# Altium footprint library OpenVizsla footprints.PcbLib: 47 footprints (part 3 of 3)
Each footprint in its own frame and in the unit in brackets; x right, y up, seen from the top. Pads: shape width x height; smd on the part's side, far side on the other; paste and mask are expansions set on the pad; w line width, h text height; cw(c..) or ccw(c..) is an arc to the next point about the centre after c.
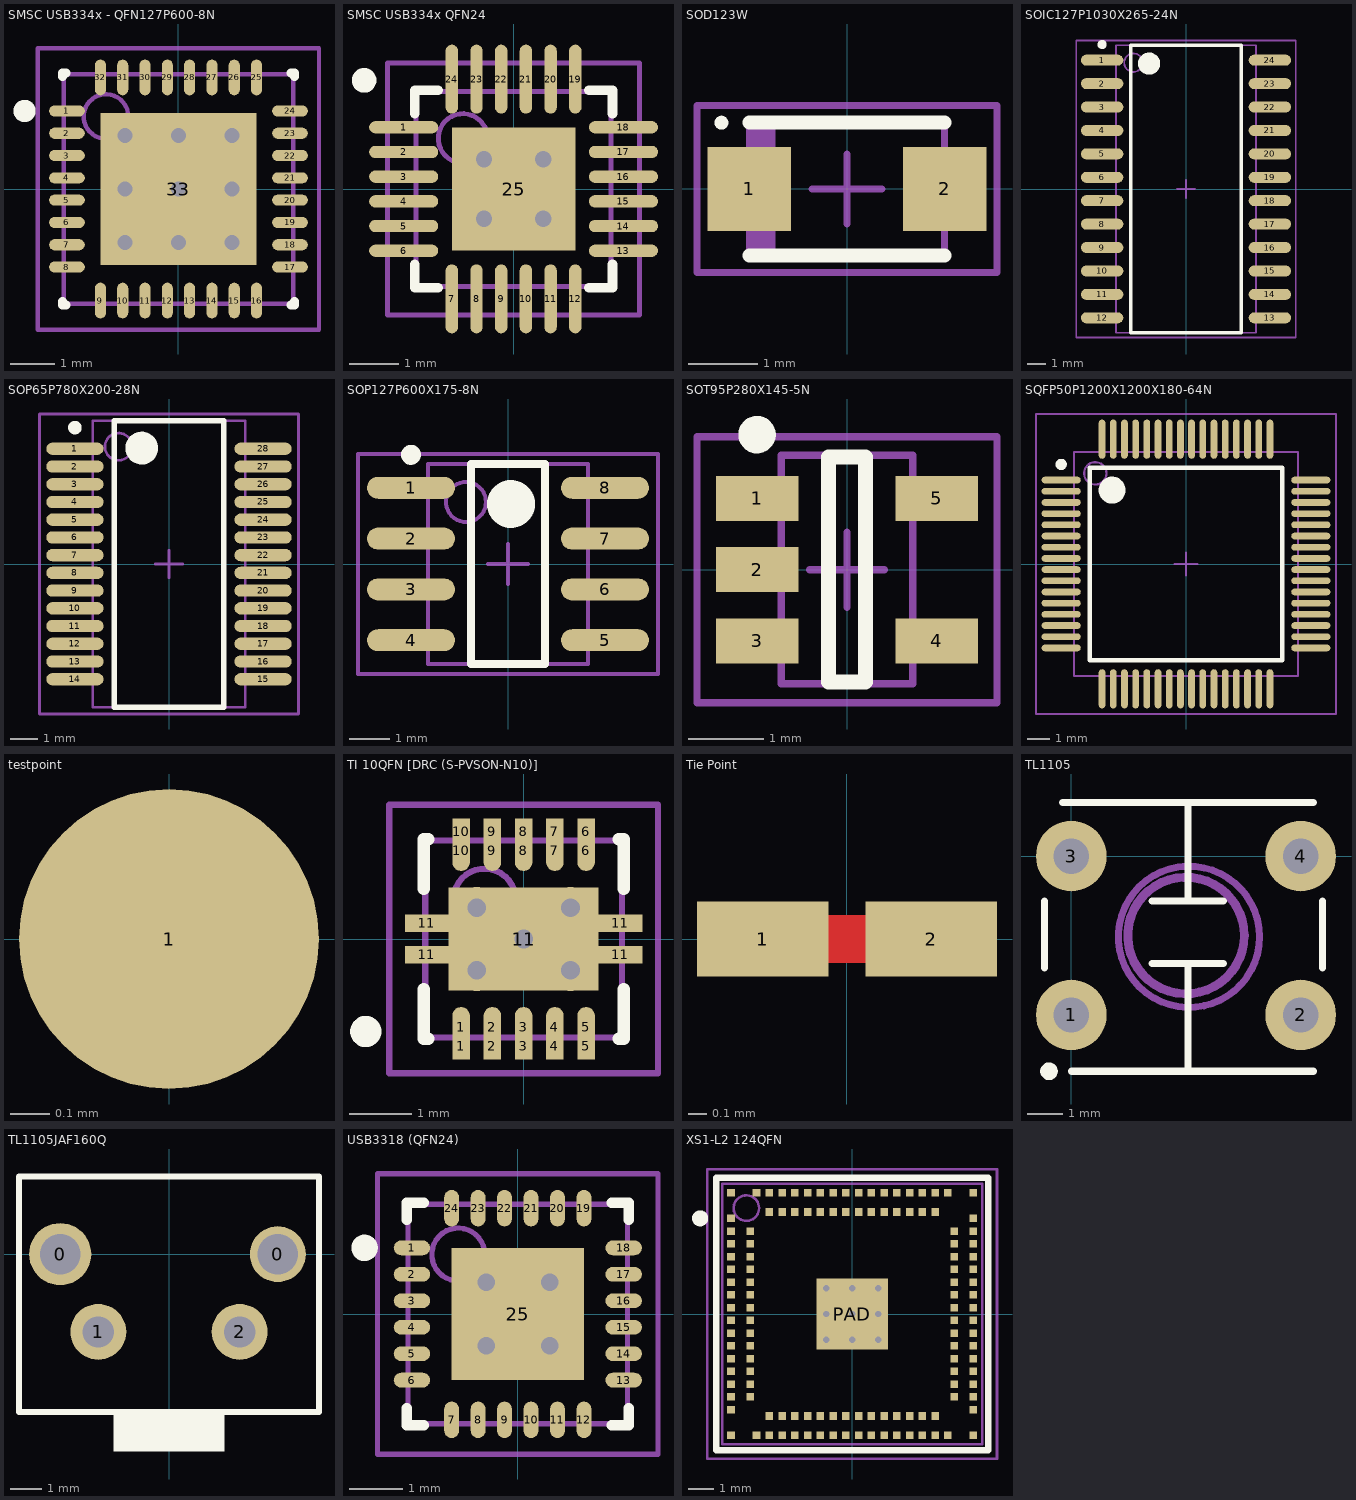
[diagram p2: the footprints below, top view; thin cyan lines are the x and y axes]

## SMSC USB334x - QFN127P600-8N [mm]
height 1
pads (33):
  oval 0.8x0.25 smd: 1(-2.5,1.75) 2(-2.5,1.25) 3(-2.5,0.75) 4(-2.5,0.25) 5(-2.5,-0.25) 6(-2.5,-0.75) 7(-2.5,-1.25) 8(-2.5,-1.75) 17(2.5,-1.75) 18(2.5,-1.25) 19(2.5,-0.75) 20(2.5,-0.25) 21(2.5,0.25) 22(2.5,0.75) 23(2.5,1.25) 24(2.5,1.75)
  oval 0.25x0.8 smd: 9(-1.75,-2.5) 10(-1.25,-2.5) 11(-0.75,-2.5) 12(-0.25,-2.5) 13(0.25,-2.5) 14(0.75,-2.5) 15(1.25,-2.5) 16(1.75,-2.5) 25(1.75,2.5) 26(1.25,2.5) 27(0.75,2.5) 28(0.25,2.5) 29(-0.25,2.5) 30(-0.75,2.5) 31(-1.25,2.5) 32(-1.75,2.5)
  rect 3.5x3.4 smd: 33(0,0)
via -1.2,1.2 diameter 0.66 hole 0.33
via 0,1.2 diameter 0.66 hole 0.33
via 1.2,1.2 diameter 0.66 hole 0.33
via -1.2,0 diameter 0.66 hole 0.33
via 0,0 diameter 0.66 hole 0.33
via 1.2,0 diameter 0.66 hole 0.33
via -1.2,-1.2 diameter 0.66 hole 0.33
via 0,-1.2 diameter 0.66 hole 0.33
via 1.2,-1.2 diameter 0.66 hole 0.33
Top Overlay:
  circle w0.25: c-3.45,1.75 r0.125
  lines w0.2: -2.6,-2.525 -2.6,-2.6 -2.525,-2.6 ; -2.6,2.525 -2.6,2.6 -2.525,2.6 ; 2.525,-2.6 2.6,-2.6 2.6,-2.525 ; 2.525,2.6 2.6,2.6 2.6,2.525
Mechanical 13:
  circle w0.1: c-1.625,1.625 r0.5
  lines w0.1: -2.575,-2.575 -2.575,2.575 2.575,2.575 2.575,-2.575 -2.575,-2.575
Mechanical 15:
  lines w0.1: -0.5,0 0.5,0 ; 0,-0.5 0,0.5 ; -3.15,-3.15 -3.15,3.15 3.15,3.15 3.15,-3.15 -3.15,-3.15
3D body: height 1, standoff 0, extent -2.575,-2.575 2.575,2.575

## SMSC USB334x QFN24 [mm] "SMSC USB334x QFN24"
height 1
pads (25):
  oval 1.4x0.25 smd mask+0.07: 1(-2.225,1.25) 2(-2.225,0.75) 3(-2.225,0.25) 4(-2.225,-0.25) 5(-2.225,-0.75) 6(-2.225,-1.25) 13(2.225,-1.25) 14(2.225,-0.75) 15(2.225,-0.25) 16(2.225,0.25) 17(2.225,0.75) 18(2.225,1.25)
  oval 0.25x1.4 smd mask+0.07: 7(-1.25,-2.225) 8(-0.75,-2.225) 9(-0.25,-2.225) 10(0.25,-2.225) 11(0.75,-2.225) 12(1.25,-2.225) 19(1.25,2.225) 20(0.75,2.225) 21(0.25,2.225) 22(-0.25,2.225) 23(-0.75,2.225) 24(-1.25,2.225)
  rect 2.5x2.5 smd mask+0.07: 25(0,0)
via 0.6,-0.6 diameter 0.66 hole 0.33
via -0.6,-0.6 diameter 0.66 hole 0.33
via 0.6,0.6 diameter 0.66 hole 0.33
via -0.6,0.6 diameter 0.66 hole 0.33
Top Overlay:
  circle w0.25: c-3.025,2.2 r0.125
  lines w0.2: -2,-1.525 -2,-2 -1.525,-2 ; -2,1.525 -2,2 -1.525,2 ; 1.525,-2 2,-2 2,-1.525 ; 1.525,2 2,2 2,1.525
Mechanical 13:
  circle w0.1: c-1.025,1.025 r0.5
  lines w0.1: -1.975,-1.975 1.975,-1.975 1.975,1.975 -1.975,1.975 -1.975,-1.975
Mechanical 15:
  lines w0.1: -0.5,0 0.5,0 ; 0,-0.5 0,0.5 ; -2.55,-2.55 2.55,-2.55 2.55,2.55 -2.55,2.55 -2.55,-2.55
3D body: height 1, standoff 0, extent -1.975,-1.975 1.975,1.975

## SOD123W [mm] "Molded Diode, 2-Leads, Body 2.6x1.7mm, IPC Medium Density"
height 1.1
pads (2):
  rect 1.2x1.2 smd: 1(-1.4,0) 2(1.4,0)
Top Overlay:
  circle w0.1: c-1.8,0.95 r0.05
  lines w0.2: -1.4,-0.95 1.4,-0.95 ; -1.4,0.95 1.4,0.95
Mechanical 13:
  rectangle: -1.4,-0.95 -1.023,0.95
  lines w0.1: -1.4,-0.95 1.4,-0.95 1.4,0.95 -1.4,0.95 -1.4,-0.95
Mechanical 15:
  lines w0.1: -0.5,0 0.5,0 ; 0,-0.5 0,0.5 ; -2.15,-1.2 2.15,-1.2 2.15,1.2 -2.15,1.2 -2.15,-1.2
3D body: height 1.1, standoff 0, extent -1.4,-0.95 1.4,0.95

## SOIC127P1030X265-24N [mm] "SOIC, 24-Leads, Body 15.6x7.6mm (max), Pitch 1.27mm, IPC Medium Density"
height 2.65
pads (24):
  oval 2.3x0.6 smd: 1(-4.55,6.985) 2(-4.55,5.715) 3(-4.55,4.445) 4(-4.55,3.175) 5(-4.55,1.905) 6(-4.55,0.635) 7(-4.55,-0.635) 8(-4.55,-1.905) 9(-4.55,-3.175) 10(-4.55,-4.445) 11(-4.55,-5.715) 12(-4.55,-6.985) 13(4.55,-6.985) 14(4.55,-5.715) 15(4.55,-4.445) 16(4.55,-3.175) 17(4.55,-1.905) 18(4.55,-0.635) 19(4.55,0.635) 20(4.55,1.905) 21(4.55,3.175) 22(4.55,4.445) 23(4.55,5.715) 24(4.55,6.985)
Top Overlay:
  circle w0.6: c-2,6.8 r0.3
  circle w0.25: c-4.55,7.835 r0.125
  lines w0.2: -3,-7.8 3,-7.8 3,7.8 -3,7.8 -3,-7.8
Mechanical 13:
  circle w0.1: c-2.85,6.85 r0.5
  lines w0.1: -3.8,-7.8 3.8,-7.8 3.8,7.8 -3.8,7.8 -3.8,-7.8
Mechanical 15:
  lines w0.1: -0.5,0 0.5,0 ; 0,-0.5 0,0.5 ; -5.95,-8.05 5.95,-8.05 5.95,8.05 -5.95,8.05 -5.95,-8.05
3D body: height 2.65, standoff 0.1, extent -3.8,-7.8 3.8,7.8

## SOP65P780X200-28N [mm] "SOP, 28-Leads, Body 10.5x5.6mm (max), Pitch 0.65mm, IPC Medium Density"
height 2
pads (28):
  oval 2.1x0.45 smd: 1(-3.45,4.225) 2(-3.45,3.575) 3(-3.45,2.925) 4(-3.45,2.275) 5(-3.45,1.625) 6(-3.45,0.975) 7(-3.45,0.325) 8(-3.45,-0.325) 9(-3.45,-0.975) 10(-3.45,-1.625) 11(-3.45,-2.275) 12(-3.45,-2.925) 13(-3.45,-3.575) 14(-3.45,-4.225) 15(3.45,-4.225) 16(3.45,-3.575) 17(3.45,-2.925) 18(3.45,-2.275) 19(3.45,-1.625) 20(3.45,-0.975) 21(3.45,-0.325) 22(3.45,0.325) 23(3.45,0.975) 24(3.45,1.625) 25(3.45,2.275) 26(3.45,2.925) 27(3.45,3.575) 28(3.45,4.225)
Top Overlay:
  circle w0.6: c-1,4.25 r0.3
  circle w0.25: c-3.45,5 r0.125
  lines w0.2: -2,-5.25 2,-5.25 2,5.25 -2,5.25 -2,-5.25
Mechanical 13:
  circle w0.1: c-1.85,4.3 r0.5
  lines w0.1: -2.8,-5.25 2.8,-5.25 2.8,5.25 -2.8,5.25 -2.8,-5.25
Mechanical 15:
  lines w0.1: -0.5,0 0.5,0 ; 0,-0.5 0,0.5 ; -4.75,-5.5 4.75,-5.5 4.75,5.5 -4.75,5.5 -4.75,-5.5
3D body: height 2, standoff 0.05, extent -2.8,-5.25 2.8,5.25

## SOP127P600X175-8N [mm] "SOP, 8-Leads, Body 5.0x4.0mm (max), Pitch 1.27mm, IPC Medium Density"
height 1.75
pads (8):
  oval 2.2x0.55 smd: 1(-2.425,1.905) 2(-2.425,0.635) 3(-2.425,-0.635) 4(-2.425,-1.905) 5(2.425,-1.905) 6(2.425,-0.635) 7(2.425,0.635) 8(2.425,1.905)
Top Overlay:
  circle w0.6: c0.075,1.5 r0.3
  circle w0.25: c-2.425,2.73 r0.125
  lines w0.2: -0.925,-2.5 0.925,-2.5 0.925,2.5 -0.925,2.5 -0.925,-2.5
Mechanical 13:
  circle w0.1: c-1.05,1.55 r0.5
  lines w0.1: -2,-2.5 2,-2.5 2,2.5 -2,2.5 -2,-2.5
Mechanical 15:
  lines w0.1: -0.5,0 0.5,0 ; 0,-0.5 0,0.5 ; -3.75,-2.75 3.75,-2.75 3.75,2.75 -3.75,2.75 -3.75,-2.75
3D body: height 1.75, standoff 0.1, extent -2,-2.5 2,2.5

## SOT95P280X145-5N [mm] "SOT23, 5-Leads, Body 3.0x3.0mm (max), Pitch 0.95mm, IPC Medium Density"
height 1.45
pads (5):
  rect 1.1x0.6 smd: 1(-1.2,0.95) 2(-1.2,0) 3(-1.2,-0.95) 4(1.2,-0.95) 5(1.2,0.95)
Top Overlay:
  circle w0.25: c-1.2,1.8 r0.125
  lines w0.2: -0.25,-1.5 0.25,-1.5 0.25,1.5 -0.25,1.5 -0.25,-1.5
Mechanical 13:
  lines w0.1: -0.875,-1.525 -0.875,1.525 0.875,1.525 0.875,-1.525 -0.875,-1.525
Mechanical 15:
  lines w0.1: -0.5,0 0.5,0 ; 0,-0.5 0,0.5 ; -2,-1.775 -2,1.775 2,1.775 2,-1.775 -2,-1.775
3D body: height 1.45, standoff 0.05, extent -0.875,-1.525 0.875,1.525

## SQFP50P1200X1200X180-64N [mm] "SQFP, 64-Leads, Body 12.2x12.2mm (max), Pitch 0.50mm, IPC Medium Density"
height 1.8
pads (64):
  oval 1.75x0.3 smd: 1(-5.575,3.75) 2(-5.575,3.25) 3(-5.575,2.75) 4(-5.575,2.25) 5(-5.575,1.75) 6(-5.575,1.25) 7(-5.575,0.75) 8(-5.575,0.25) 9(-5.575,-0.25) 10(-5.575,-0.75) 11(-5.575,-1.25) 12(-5.575,-1.75) 13(-5.575,-2.25) 14(-5.575,-2.75) 15(-5.575,-3.25) 16(-5.575,-3.75) 33(5.575,-3.75) 34(5.575,-3.25) 35(5.575,-2.75) 36(5.575,-2.25) 37(5.575,-1.75) 38(5.575,-1.25) 39(5.575,-0.75) 40(5.575,-0.25) 41(5.575,0.25) 42(5.575,0.75) 43(5.575,1.25) 44(5.575,1.75) 45(5.575,2.25) 46(5.575,2.75) 47(5.575,3.25) 48(5.575,3.75)
  oval 0.3x1.75 smd: 17(-3.75,-5.575) 18(-3.25,-5.575) 19(-2.75,-5.575) 20(-2.25,-5.575) 21(-1.75,-5.575) 22(-1.25,-5.575) 23(-0.75,-5.575) 24(-0.25,-5.575) 25(0.25,-5.575) 26(0.75,-5.575) 27(1.25,-5.575) 28(1.75,-5.575) 29(2.25,-5.575) 30(2.75,-5.575) 31(3.25,-5.575) 32(3.75,-5.575) 49(3.75,5.575) 50(3.25,5.575) 51(2.75,5.575) 52(2.25,5.575) 53(1.75,5.575) 54(1.25,5.575) 55(0.75,5.575) 56(0.25,5.575) 57(-0.25,5.575) 58(-0.75,5.575) 59(-1.25,5.575) 60(-1.75,5.575) 61(-2.25,5.575) 62(-2.75,5.575) 63(-3.25,5.575) 64(-3.75,5.575)
Top Overlay:
  circle w0.25: c-5.575,4.45 r0.125
  circle w0.6: c-3.3,3.3 r0.3
  lines w0.2: -4.3,-4.3 -4.3,4.3 4.3,4.3 4.3,-4.3 -4.3,-4.3
Mechanical 13:
  circle w0.1: c-4.05,4.05 r0.5
  lines w0.1: -5,-5 -5,5 5,5 5,-5 -5,-5
Mechanical 15:
  lines w0.1: -0.5,0 0.5,0 ; 0,-0.5 0,0.5 ; -6.7,-6.7 -6.7,6.7 6.7,6.7 6.7,-6.7 -6.7,-6.7
3D body: height 1.8, standoff 0.25, extent -5,-5 5,5

## testpoint [mil] "30mil testpoint"
pads (1):
  round 30 smd: 1(0,0)
Mechanical 15:
  text ".Designator" at 16.14,23.23 h65

## TI 10QFN [DRC (S-PVSON-N10)] [mm] "QFN, 10-Leads, Body 3.2x3.2mm (max), Pitch 0.50mm, IPC Medium Density"
height 1
pads (25):
  rect 0.28x0.425 smd paste-0.035 mask+0.07: 1(-1,-1.713) 2(-0.5,-1.713) 3(0,-1.713) 4(0.5,-1.713) 5(1,-1.713) 6(1,1.713) 7(0.5,1.713) 8(0,1.713) 9(-0.5,1.713) 10(-1,1.713)
  oval 0.28x0.65 smd paste-0.035 mask+0.07: 1(-1,-1.412) 2(-0.5,-1.412) 3(0,-1.412) 4(0.5,-1.412) 5(1,-1.412) 6(1,1.412) 7(0.5,1.412) 8(0,1.412) 9(-0.5,1.412) 10(-1,1.412)
  rect 0.7x0.28 smd paste-0.1 mask+0: 11(-1.55,-0.25) 11(-1.55,0.25) 11(1.55,-0.25) 11(1.55,0.25)
  rect 2.4x1.65 smd paste-1 mask+0.005: 11(0,0)
via -0.75,0.5 diameter 0.66 hole 0.3
via -0.75,-0.5 diameter 0.66 hole 0.3
via 0.75,-0.5 diameter 0.66 hole 0.3
via 0.75,0.5 diameter 0.66 hole 0.3
via 0,0 diameter 0.66 hole 0.3
Top Overlay:
  circle w0.25: c-2.525,-1.48 r0.125
  lines w0.2: -1.6,-0.8 -1.6,-1.6 -1.525,-1.6 ; -1.6,0.8 -1.6,1.6 -1.525,1.6 ; 1.525,-1.6 1.6,-1.6 1.6,-0.8 ; 1.525,1.6 1.6,1.6 1.6,0.8
Top Paste:
  region: -1.17,0.1 -0.11,0.1 -0.11,0.78 -1.17,0.78
  region: -1.17,-0.79 -0.11,-0.79 -0.11,-0.11 -1.17,-0.11
  region: 0.1,-0.79 1.16,-0.79 1.16,-0.11 0.1,-0.11
  region: 0.1,0.1 1.16,0.1 1.16,0.78 0.1,0.78
  region: -1.79,0.38 -1.3,0.38 -1.3,0.12 -1.79,0.12
  region: -1.795,-0.12 -1.305,-0.12 -1.305,-0.38 -1.795,-0.38
  region: 1.305,0.38 1.795,0.38 1.795,0.12 1.305,0.12
  region: 1.305,-0.12 1.795,-0.12 1.795,-0.38 1.305,-0.38
Mechanical 13:
  circle w0.1: c-0.625,0.625 r0.5
  lines w0.1: -1.575,-1.575 1.575,-1.575 1.575,1.575 -1.575,1.575 -1.575,-1.575
Mechanical 15:
  lines w0.1: -0.5,0 0.5,0 ; 0,-0.5 0,0.5 ; -2.15,-2.15 2.15,-2.15 2.15,2.15 -2.15,2.15 -2.15,-2.15
3D body: height 1, standoff 0, extent -1.575,-1.575 1.575,1.575

## Tie Point [mm] "Connects two nets together, electrically"
pads (2):
  rect 0.7x0.4 smd paste-2.54 mask+0: 1(-0.45,0) 2(0.45,0)
Top Layer:
  lines w0.254: -0.45,0 0.45,0

## TL1105 [mm] "E-switch tact switch"
height 17
pads (4):
  round 2 hole 1: 1(0,-4.5) 2(6.5,-4.5) 3(0,0) 4(6.5,0)
Top Overlay:
  circle w0.25: c-0.633,-6.096 r0.125
  lines w0.2: -0.762,-3.17 -0.762,-1.27 ; -0.254,1.524 6.858,1.524 ; 0,-6.096 6.858,-6.096 ; 2.286,-3.048 4.318,-3.048 ; 2.286,-1.27 4.318,-1.27 ; 3.302,-6.03 3.302,-3.048 ; 3.302,-1.27 3.302,1.458 ; 7.112,-3.17 7.112,-1.27
Mechanical 1:
  circle w0.2: c3.334,-2.286 r2
Mechanical 2:
  circle w0.254: c3.25,-2.25 r1.651

## TL1105JAF160Q [mm] "rt-angle thru-hole PCB switch"
pads (4):
  round 2 hole 1.3 unplated: 0(-3.5,0)
  round 1.8 hole 1.3 unplated: 0(3.5,0)
  round 1.8 hole 1: 1(-2.275,-2.5) 2(2.275,-2.5)
Top Overlay:
  rectangle: -1.778,-6.35 1.778,-5.08
  lines w0.2: -4.826,-5.08 4.826,-5.08 4.826,2.5 -4.826,2.5 -4.826,-5.08
3D body: height 0.3, standoff -8.3, extent -4.95,-6 4.75,2.2

## USB3318 (QFN24) [mm] "QFN, 24-Leads, Body 4.2x4.2mm (max), Pitch 0.50mm, IPC Medium Density"
height 1
pads (25):
  oval 0.69x0.28 smd: 1(-2,1.25) 2(-2,0.75) 3(-2,0.25) 4(-2,-0.25) 5(-2,-0.75) 6(-2,-1.25) 13(2,-1.25) 14(2,-0.75) 15(2,-0.25) 16(2,0.25) 17(2,0.75) 18(2,1.25)
  oval 0.28x0.69 smd: 7(-1.25,-2) 8(-0.75,-2) 9(-0.25,-2) 10(0.25,-2) 11(0.75,-2) 12(1.25,-2) 19(1.25,2) 20(0.75,2) 21(0.25,2) 22(-0.25,2) 23(-0.75,2) 24(-1.25,2)
  rect 2.5x2.5 smd: 25(0,0)
via -0.6,0.6 diameter 0.66 hole 0.33
via 0.6,0.6 diameter 0.66 hole 0.33
via -0.6,-0.6 diameter 0.66 hole 0.33
via 0.6,-0.6 diameter 0.66 hole 0.33
Top Overlay:
  circle w0.25: c-2.895,1.25 r0.125
  lines w0.2: -2.1,-1.778 -2.1,-2.1 -1.778,-2.1 ; -2.1,1.778 -2.1,2.1 -1.778,2.1 ; 1.778,-2.1 2.1,-2.1 2.1,-1.778 ; 1.778,2.1 2.1,2.1 2.1,1.778
Mechanical 13:
  circle w0.1: c-1.125,1.125 r0.5
  lines w0.1: -2.075,-2.075 -2.075,2.075 2.075,2.075 2.075,-2.075 -2.075,-2.075
Mechanical 15:
  lines w0.1: -0.5,0 0.5,0 ; 0,-0.5 0,0.5 ; -2.65,-2.65 -2.65,2.65 2.65,2.65 2.65,-2.65 -2.65,-2.65
3D body: height 1, standoff 0, extent -2,-2.075 2.15,2.075

## XS1-L2 124QFN [mm] "Double Row QFN, 124-Leads, Body 10.2x10.2mm (max), Pitch 0.50mm, IPC Medium Density"
height 1.11
pads (125):
  rect 0.3x0.3 smd paste+0 mask+0: A1(-4.75,4.75) A2(-4.75,3.75) A3(-4.75,3.25) A4(-4.75,2.75) A5(-4.75,2.25) A6(-4.75,1.75) A7(-4.75,1.25) A8(-4.75,0.75) A9(-4.75,0.25) A10(-4.75,-0.25) A11(-4.75,-0.75) A12(-4.75,-1.25) A13(-4.75,-1.75) A14(-4.75,-2.25) A15(-4.75,-2.75) A16(-4.75,-3.25) A17(-4.75,-3.75) A18(-4.75,-4.75) A19(-3.75,-4.75) A20(-3.25,-4.75) A21(-2.75,-4.75) A22(-2.25,-4.75) A23(-1.75,-4.75) A24(-1.25,-4.75) A25(-0.75,-4.75) A26(-0.25,-4.75) A27(0.25,-4.75) A28(0.75,-4.75) A29(1.25,-4.75) A30(1.75,-4.75) A31(2.25,-4.75) A32(2.75,-4.75) A33(3.25,-4.75) A34(3.75,-4.75) A35(4.75,-4.75) A36(4.75,-3.75) A37(4.75,-3.25) A38(4.75,-2.75) A39(4.75,-2.25) A40(4.75,-1.75) A41(4.75,-1.25) A42(4.75,-0.75) A43(4.75,-0.25) A44(4.75,0.25) A45(4.75,0.75) A46(4.75,1.25) A47(4.75,1.75) A48(4.75,2.25) A49(4.75,2.75) A50(4.75,3.25) A51(4.75,3.75) A52(4.75,4.75) A53(3.75,4.75) A54(3.25,4.75) A55(2.75,4.75) A56(2.25,4.75) A57(1.75,4.75) A58(1.25,4.75) A59(0.75,4.75) A60(0.25,4.75) A61(-0.25,4.75) A62(-0.75,4.75) A63(-1.25,4.75) A64(-1.75,4.75) A65(-2.25,4.75) A66(-2.75,4.75) A67(-3.25,4.75) A68(-3.75,4.75) B1(-4,3.25) B2(-4,2.75) B3(-4,2.25) B4(-4,1.75) B5(-4,1.25) B6(-4,0.75) B7(-4,0.25) B8(-4,-0.25) B9(-4,-0.75) B10(-4,-1.25) B11(-4,-1.75) B12(-4,-2.25) B13(-4,-2.75) B14(-4,-3.25) B15(-3.25,-4) B16(-2.75,-4) B17(-2.25,-4) B18(-1.75,-4) B19(-1.25,-4) B20(-0.75,-4) B21(-0.25,-4) B22(0.25,-4) B23(0.75,-4) B24(1.25,-4) B25(1.75,-4) B26(2.25,-4) B27(2.75,-4) B28(3.25,-4) B29(4,-3.25) B30(4,-2.75) B31(4,-2.25) B32(4,-1.75) B33(4,-1.25) B34(4,-0.75) B35(4,-0.25) B36(4,0.25) B37(4,0.75) B38(4,1.25) B39(4,1.75) B40(4,2.25) B41(4,2.75) B42(4,3.25) B43(3.25,4) B44(2.75,4) B45(2.25,4) B46(1.75,4) B47(1.25,4) B48(0.75,4) B49(0.25,4) B50(-0.25,4) B51(-0.75,4) B52(-1.25,4) B53(-1.75,4) B54(-2.25,4) B55(-2.75,4) B56(-3.25,4)
  rect 2.8x2.8 smd paste-2 mask+0: PAD(0,0)
via 1.016,-1.016 diameter 0.559 hole 0.254
via -1.016,-1.016 diameter 0.559 hole 0.254
via 1.016,0 diameter 0.559 hole 0.254
via -1.016,0 diameter 0.559 hole 0.254
via 0,-1.016 diameter 0.559 hole 0.254
via 0,0 diameter 0.559 hole 0.254
via 0,1.016 diameter 0.559 hole 0.254
via 1.016,1.016 diameter 0.559 hole 0.254
via -1.016,1.016 diameter 0.559 hole 0.254
Top Overlay:
  circle w0.381: c-5.96,3.75 r0.125
  lines w0.254: -5.334,-5.334 5.334,-5.334 5.334,5.334 -5.334,5.334 ; -5.334,-5.3 -5.334,5.275
Top Paste:
  region: -1.316,-0.3 -0.716,-0.3 -0.716,0.3 -1.316,0.3
  region: -1.316,-1.316 -0.716,-1.316 -0.716,-0.716 -1.316,-0.716
  region: -0.3,-1.316 0.3,-1.316 0.3,-0.716 -0.3,-0.716
  region: 0.716,-1.316 1.316,-1.316 1.316,-0.716 0.716,-0.716
  region: 0.716,-0.3 1.316,-0.3 1.316,0.3 0.716,0.3
  region: 0.716,0.716 1.316,0.716 1.316,1.316 0.716,1.316
  region: -0.3,0.716 0.3,0.716 0.3,1.316 -0.3,1.316
  region: -1.316,0.716 -0.716,0.716 -0.716,1.316 -1.316,1.316
  region: -0.3,-0.3 0.3,-0.3 0.3,0.3 -0.3,0.3
Mechanical 13:
  circle w0.1: c-4.15,4.15 r0.5
  lines w0.1: -5.1,-5.1 -5.1,5.1 5.1,5.1 5.1,-5.1 -5.1,-5.1
Mechanical 15:
  lines w0.1: -0.5,0 0.5,0 ; 0,-0.5 0,0.5 ; -5.675,-5.675 -5.675,5.675 5.675,5.675 5.675,-5.675 -5.675,-5.675
3D body: height 1.11, standoff 0, extent -5.1,-5.1 5.1,5.1